# Altium schematic symbol library Schlib1.SchLib: 1 symbol
Pins are listed as number, name and electrical type; pins without a type are passive.

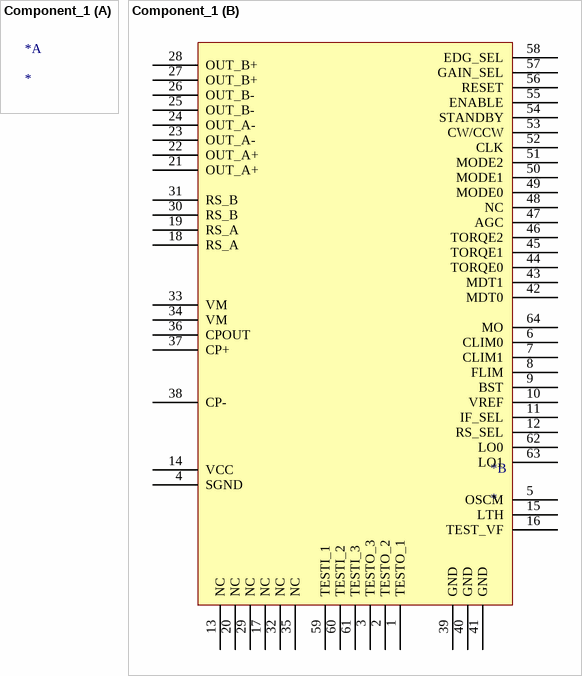
[diagram p0: symbol Component_1]

## Component_1
designator *
footprint TB67S128FTG FP
part B pins: 1 TESTO_1, 2 TESTO_2, 3 TESTO_3, 4 SGND, 5 OSCM, 6 CLIM0, 7 CLIM1, 8 FLIM, 9 BST, 10 VREF, 11 IF_SEL, 12 RS_SEL, 13 NC, 14 VCC, 15 LTH, 16 TEST_VF, 17 NC, 18 RS_A, 19 RS_A, 20 NC, 21 OUT_A+, 22 OUT_A+, 23 OUT_A-, 24 OUT_A-, 25 OUT_B-, 26 OUT_B-, 27 OUT_B+, 28 OUT_B+, 29 NC, 30 RS_B, 31 RS_B, 32 NC, 33 VM, 34 VM, 35 NC, 36 CPOUT, 37 CP+, 38 CP-, 39 GND, 40 GND, 41 GND, 42 MDT0, 43 MDT1, 44 TORQE0, 45 TORQE1, 46 TORQE2, 47 AGC, 48 NC, 49 MODE0, 50 MODE1, 51 MODE2, 52 CLK, 53 CW/CCW, 54 STANDBY, 55 ENABLE, 56 RESET, 57 GAIN_SEL, 58 EDG_SEL, 59 TESTI_1, 60 TESTI_2, 61 TESTI_3, 62 LO0, 63 LO1, 64 MO